# EAGLE library part UJ20-C-H-G-MSMT-4B-P16-TR (library UJ20-C-H-G-MSMT-4B-P16-TR)
Type C, USB 2.0, 480 Mbps, 20 Vdc, 3 A, Horizontal, Mid Mount SMT, SMT Contacts, Gold Flash, 16 Pins, USB Receptacle Source: Datasheet <https://www.sameskydevices.com/product/resource/uj20-c-h-g-msmt-4b-p16-tr.pdf>
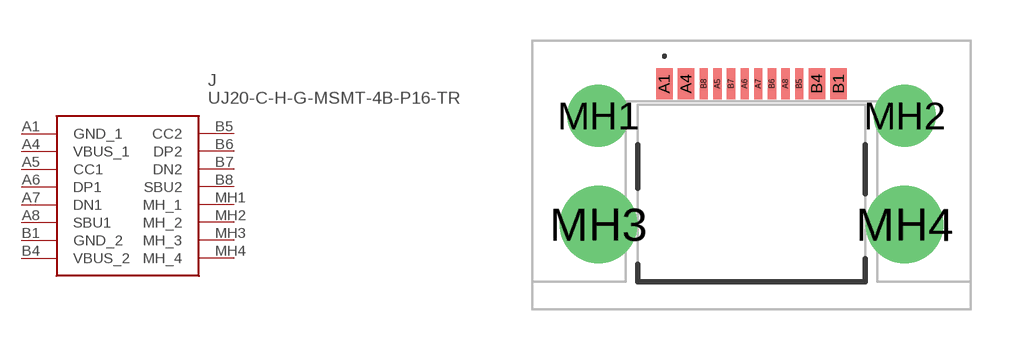
[diagram p0: symbol with the pads of UJ20CHGMSMT4BP16TR; footprint UJ20CHGMSMT4BP16TR]

Designator prefix J

## UJ20-C-H-G-MSMT-4B-P16-TR (Description: Type C, USB 2.0, 480 Mbps, 20 Vdc, 3 A, Horizontal, Mid Mount SMT, SMT Contacts, Gold Flash, 16 Pins, USB Receptacle; Height: 2.6mm; Manufacturer_Name: Same Sky; Manufacturer_Part_Number: UJ20-C-H-G-MSMT-4B-P16-TR)  [UJ20CHGMSMT4BP16TR]
A1  GND_1
A4  VBUS_1
A5  CC1
A6  DP1
A7  DN1
A8  SBU1
B1  GND_2
B4  VBUS_2
B5  CC2
B6  DP2
B7  DN2
B8  SBU2
MH1  MH_1
MH2  MH_2
MH3  MH_3
MH4  MH_4

## Footprint UJ20CHGMSMT4BP16TR (pad centres in mm)
UJ20-C-H-G-MSMT-4B-P16-TR-2
smd 0.6 x 1.15: A1 -3.2,3.638; A4 -2.4,3.638; B1 3.2,3.638; B4 2.4,3.638
smd 0.3 x 1.15: A5 -1.25,3.638; A6 -0.25,3.638; A7 0.25,3.638; A8 1.25,3.638; B5 1.75,3.638; B6 0.75,3.638; B7 -0.75,3.638; B8 -1.75,3.638
drill 1.52 pad 2.28: MH1 -5.625,2.463; MH2 5.625,2.463
drill 1.9 pad 2.85: MH3 -5.625,-1.537; MH4 5.625,-1.537